# Altium schematic symbol library Telemetry.SchLib: 4 symbols
Pins are listed as number, name and electrical type; pins without a type are passive.

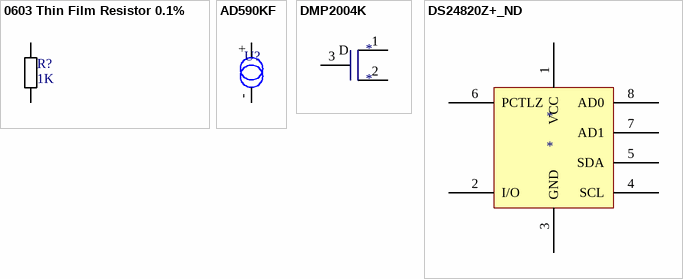
[diagram p0: symbols 0603 Thin Film Resistor 0.1% to DS24820Z+_ND]

## 0603 Thin Film Resistor 0.1%
designator R?, comment value 1K  (hidden comment: 0603 Resistor)
0603 Thin Film Resistor 0.1%
footprint 0603 Resistor
pins: 1, 2

## AD590KF
designator U?  (value not drawn)
Temperature sensor IC
footprint 5.05mm Terminal Block - 2; pin to pad ->2
pins: +, -

## DMP2004K
designator *
MOSFET P-CH 20V 600MA SOT23-3
pins: 1 D, 2 S, 3 G

## DS24820Z+_ND
designator *
pins: 1 VCC, 2 I/O, 3 GND, 4 SCL, 5 SDA, 6 PCTLZ, 7 AD1, 8 AD0